# Altium integrated library AD9522-3BCPZ.IntLib: 1 symbol
Pins are listed as number, name and electrical type; pins without a type are passive.

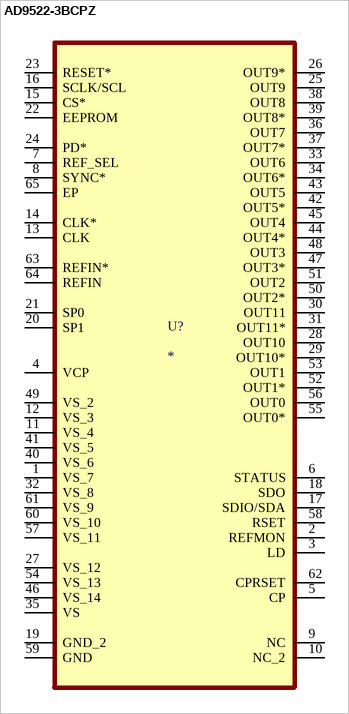
[diagram p0: symbol AD9522-3BCPZ]

## AD9522-3BCPZ
designator U?
Clock Generator, Fanout Distribution IC 2.25GHz 1 64-VFQFN Exposed Pad, CSP; MP: AD9522-3BCPZ; MF: Analog Devices; Value: *; SnapEDA_Link: https://www.snapeda.com/parts/AD9522-3BCPZ/Analog%20Devices/view-part/471629/?ref=snap; Availability: In Stock; Package: LFCSP -64 Analog Devices; Purchase-URL: https://pricing.snapeda.com/search/part/AD9522-3BCPZ/?ref=eda; Price: None; Check_prices: https://www.snapeda.com/parts/AD9522-3BCPZ/Analog%20Devices/view-part/471629/?ref=eda
footprint QFN50P900X900X100-65N
pins: 1 VS_7 (power), 2 REFMON, 3 LD, 4 VCP (power), 5 CP, 6 STATUS, 7 REF_SEL, 8 SYNC*, 9 NC, 10 NC_2, 11 VS_4 (power), 12 VS_3 (power), 13 CLK, 14 CLK*, 15 CS*, 16 SCLK/SCL, 17 SDIO/SDA, 18 SDO, 19 GND_2, 20 SP1, 21 SP0, 22 EEPROM, 23 RESET*, 24 PD*, 25 OUT9, 26 OUT9*, 27 VS_12 (power), 28 OUT10, 29 OUT10*, 30 OUT11, 31 OUT11*, 32 VS_8 (power), 33 OUT6, 34 OUT6*, 35 VS (power), 36 OUT7, 37 OUT7*, 38 OUT8, 39 OUT8*, 40 VS_6 (power), 41 VS_5 (power), 42 OUT5*, 43 OUT5, 44 OUT4*, 45 OUT4, 46 VS_14 (power), 47 OUT3*, 48 OUT3, 49 VS_2 (power), 50 OUT2*, 51 OUT2, 52 OUT1*, 53 OUT1, 54 VS_13 (power), 55 OUT0*, 56 OUT0, 57 VS_11 (power), 58 RSET, 59 GND, 60 VS_10 (power), 61 VS_9 (power), 62 CPRSET, 63 REFIN*, 64 REFIN, 65 EP